# Altium schematic symbol library MICROCHIP MIC811.SchLib: 1 symbol
Pins are listed as number, name and electrical type; pins without a type are passive.

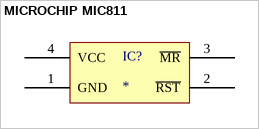
[diagram p0: symbol MICROCHIP MIC811]

## MICROCHIP MIC811
designator IC?
pins: 1 GND, 2 ~{RST}, 3 ~{MR}, 4 VCC